# Altium integrated library Linear Technology Charge_Pump.IntLib: 599 symbols (part 21 of 29)
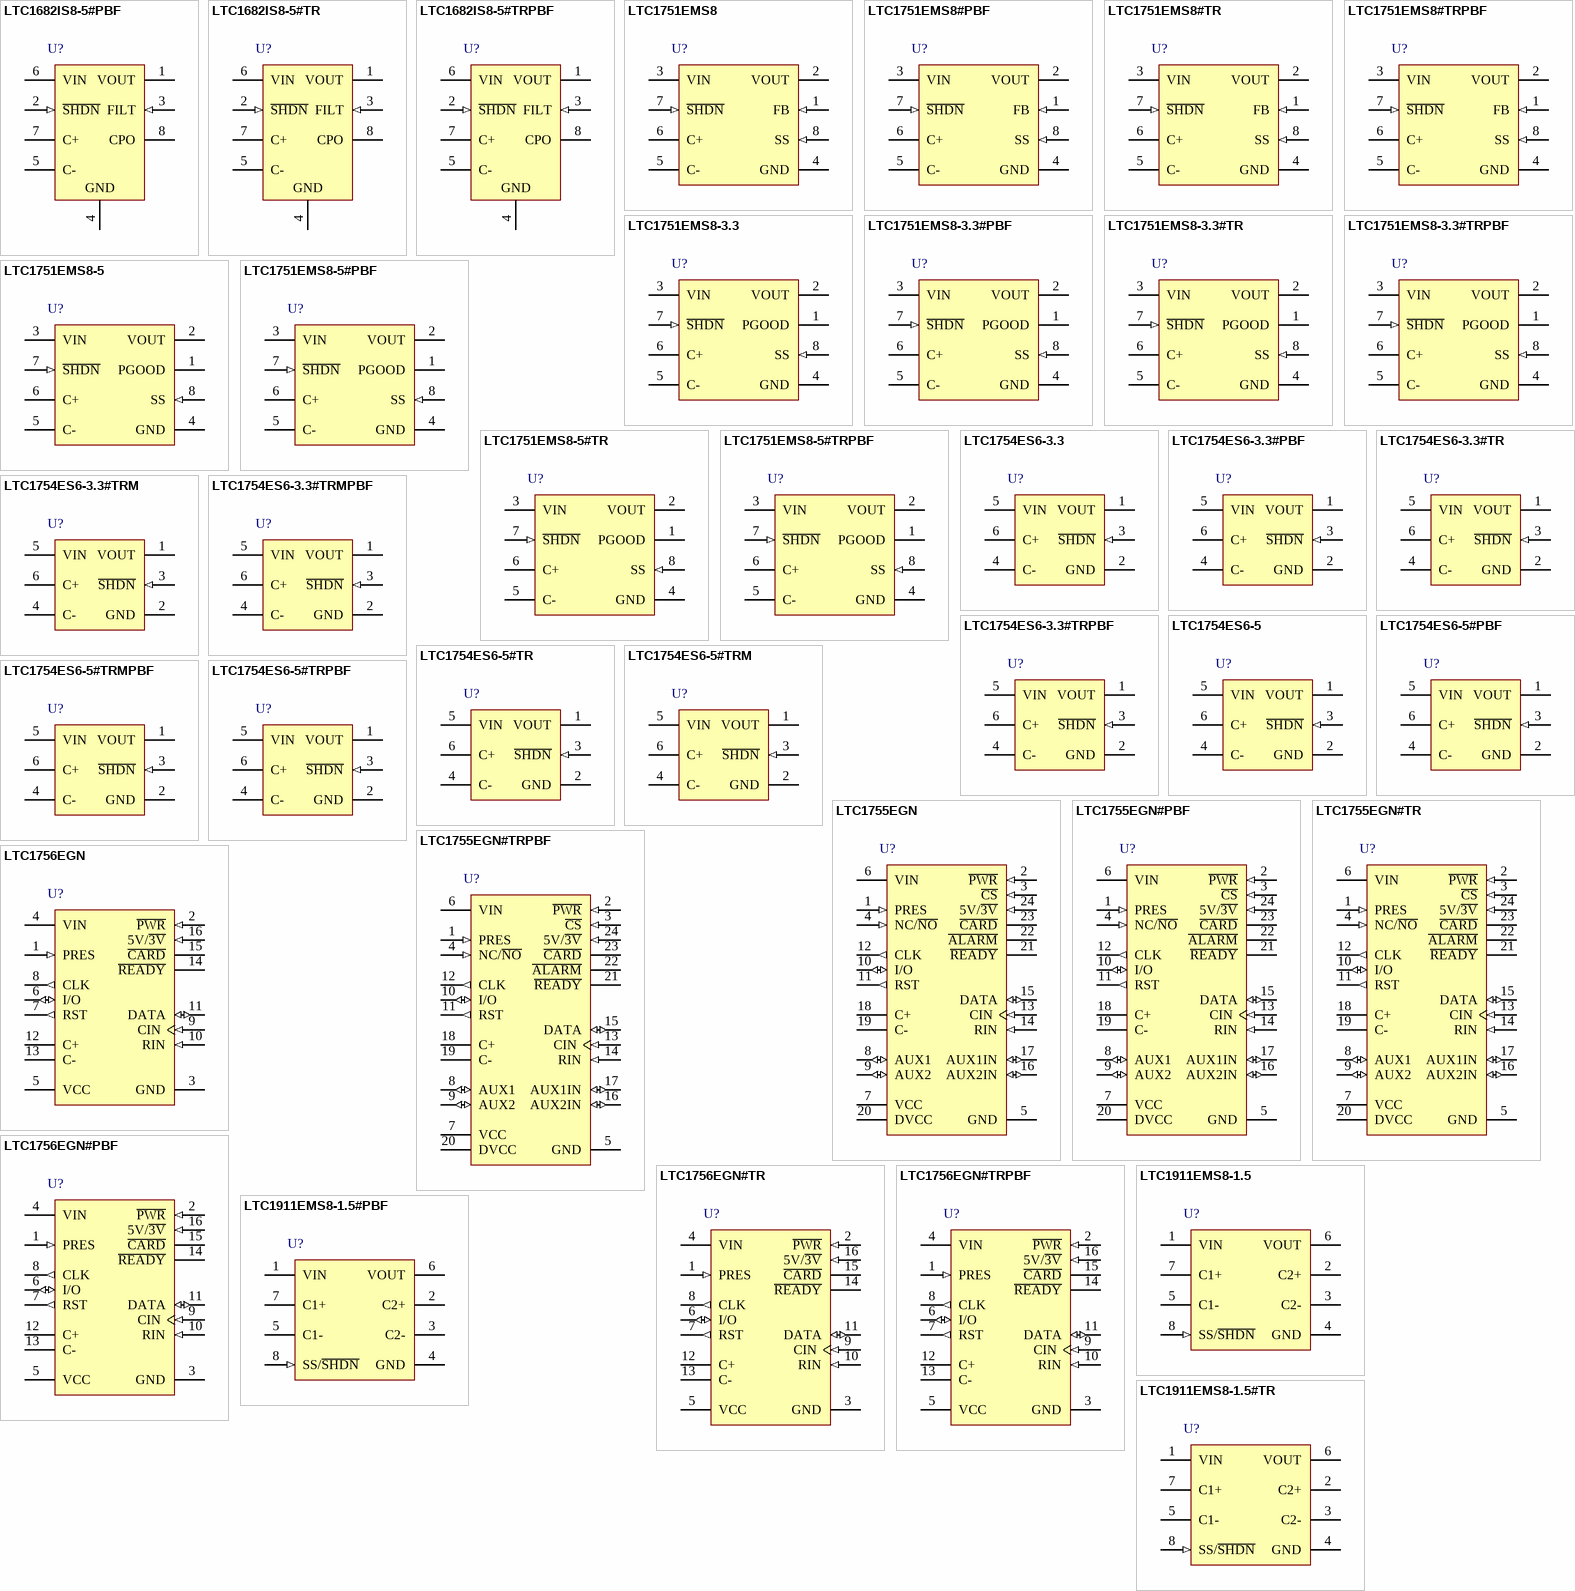
[diagram p36: symbols LTC1682IS8-5#PBF to LTC1911EMS8-1.5#TR]

## LTC1755EGN#TRPBF
designator U?
Smart Card Interface, 2.7 to 6 V Vin, 3 / 5 V Vout, 24-pin SOP (GN-24), -40 to 85 degC, Pb-Free, Tape and Reel; Manufacturer: Linear Technology; PartNumber: LTC1755EGN#TRPBF; Ishutdown(uA): 1; Isupply(mA): 0.06; Max Iout(mA): 60; Vin Max(V): 6; Vin Min(V): 2.7; Voutput: 3V, 5V; PackageVersion: Rev. B, 03/2012; PackageReference: GN24; PackageDescription: 24-Pin Plastic SSOP , Body 8.5 x 3.9 mm, Pitch 0.635 mm; Supplier 1: Digi-Key; Supplier Part Number 1: LTC1755EGN#TRPBF-ND; Packing: Tape and Reel; RoHS: TRUE; Mounting Technology: Surface Mount; ComponentLink1Description: Manufacturer URL; ComponentLink1URL: http://www.linear.com/; ComponentLink2Description: Datasheet; ComponentLink2URL: http://cds.linear.com/docs/en/datasheet/17556s.pdf; ComponentLink3Description: Package Specification; ComponentLink3URL: http://cds.linear.com/docs/en/packaging/05081641_B_GN24.pdf
footprint LT-GN-24_N (SOP, 24-Leads, Body 8.7x4mm, Pitch 0.635mm, IPC Medium Density)
footprint LT-GN-24_L (SOP, 24-Leads, Body 8.7x4mm, Pitch 0.635mm, IPC High Density)
footprint LT-GN-24_M (SOP, 24-Leads, Body 8.7x4mm, Pitch 0.635mm, IPC Low Density)
pins: 1 PRES (in) "(Input) Connects to the Smart Card acceptor¡¯s PRESENT indicator switch to detect if a card is inserted. This pin has a pull-up current source so that a grounded switch can be detected with no external components. Th(See Datasheet)", 2 ~{PWR} (in) "(Input) A low on the P\W\R\ pin places the LTC1755 in the ACTIVE state enabling the charge pump. The R\E\A\D\Y\ pin indicates when the card supply voltage (VCC) has reached its final value and communication with the Smart (See Datasheet)", 3 ~{CS} (in) "(Input) The C\S\ pin enables the three bidirectional I/O channels of the LTC1755. When the I/O channels are disabled the Smart Card pins (I/O, AUX1, AUX2) are forced to logic one and the controller pins (DATA, AUX2IN, (See Datasheet)", 4 NC/~{NO} (in) "(Input) This pin controls the activation level of the PRES pin. When it is high (DVCC) the PRES pin is active high. When it is low (GND) the PRES pin is active low. In either case the presence of a Smart Card is indicated by (See Datasheet)", 5 GND (power) "Ground Reference for the IC. This pin should be connected to a low impedance ground plane. Bypass capacitors for VIN and VCC should be in close proximity to the GND pin.", 6 VIN (power) "Supply Voltage for the Charge Pump. May be between 2.7V and 6V. A 10uF low ESR ceramic bypass capacitor is required on this pin for optimum performance.", 7 VCC (power) "Regulated Smart Card Supply Voltage. This pin should be connected to the Smart Card VCC contact. The 5V/3\V\ pin determines the VCC output voltage. The VCC pin is protected against short circuits by comparing the actual (See Datasheet)", 8 AUX1 (io) "(Input/Output) Smart Card Side Auxiliary I/O Pin. This pin is used for auxiliary bidirectional data transfer between the microcontroller and the Smart Card. It has the same characteristics as the I/O pin.", 9 AUX2 (io) "(Input/Output) Smart Card Side Auxiliary I/O Pin. This pin is used for auxiliary bidirectional data transfer between the microcontroller and the Smart Card. It has the same characteristics as the I/O pin.", 10 I/O (io) "(Input/Output) Smart Card Side Data I/O Pin. This pin is used for bidirectional data transfer between the microcontroller and the Smart Card. It should be connected to the Smart Card I/O contact. The Smart Card I/O pin must (See Datasheet)", 11 RST (out) "(Output) Level-Shifted Reset Output Pin. This pin should be connected to the Smart Card RST contact. The RST pin becomes a low impedance to ground during the Idle state (see the State Diagram). The reset channel does not (See Datasheet)", 12 CLK (out) "(Output) Level-Shifted Clock Output Pin. This pin should be connected to the Smart Card CLK contact. The CLK pin becomes a low impedance to ground during the Idle state (see the State Diagram). The clock channel does not (See Datasheet)", 13 CIN (in) "(Input) Clock Input Pin from the Microcontroller. During the Active state this signal appears on the CLK pin after being level-shifted and buffered. DVCC sets the logic reference level for the CIN pin.", 14 RIN (in) "(Input) Reset Input Pin from the Microcontroller. During the Active state this signal appears on the RST pin after being level-shifted and buffered. DVCC sets the logic reference level for the RIN pin.", 15 DATA (io) "(Input/Output) Microcontroller Side Data I/O Pin. This pin is used for bidirectional data transfer between the microcontroller and the Smart Card. The microcontroller data pin must be open drain and must be able to sink up (See Datasheet)", 16 AUX2IN (io) "(Input/Output) Microcontroller Side Auxiliary I/O pin. This pin is used for bidirectional auxiliary data transfer between the microcontroller and the Smart Card. It has the same characteristics as the DATA pin.", 17 AUX1IN (io) "(Input/Output) Microcontroller Side Auxiliary I/O Pin. This pin is used for bidirectional auxiliary data transfer between the microcontroller and the Smart Card. It has the same characteristics as the DATA pin.", 18 C+ "Charge Pump Flying Capacitor Terminals. Optimum values for the flying capacitor range from 0.68uF to 1uF. Best performance is achieved with a low ESR X7R ceramic capacitor.", 19 C- "Charge Pump Flying Capacitor Terminals. Optimum values for the flying capacitor range from 0.68uF to 1uF. Best performance is achieved with a low ESR X7R ceramic capacitor.", 20 DVCC (power) "Supply Voltage for the Microcontroller Side Digital Input and Input/Output Pins (Typically 3V). If the charge pump input pin (VIN) is powered from the same source as the microcontroller, then DVCC should be connected (See Datasheet)", 21 ~{READY} (oc) "(Output) Readiness Indicator of the Smart Card Supply Voltage (VCC). When the LTC1755/ LTC1756 are placed in the Active state the soft-start feature slowly ramps the VCC voltage. A low on the R\E\A\D\Y\ pin indicates that (See Datasheet)", 22 ~{ALARM} (oc) "(Output) A low on this pin indicates that a fault has occurred and that the LTC1755 is in the Alarm state (see the State Diagram). Possible faults include VCC underrange for at least 5ms, overtemperature shutdown, CLK or RST (See Datasheet)", 23 ~{CARD} (oc) "(Output) Level-Shifted and Debounced PRES Signal from the Smart Card Acceptor Switch. When a valid card indication appears, this pin communicates the presence of the Smart Card to the microcontroller. The C\A\R\D\ pin has an (See Datasheet)", 24 5V/~{3V} (in) "(Input) Controls the output voltage (VCC) of the DC/DC converter during the Active state. A valid high sets VCC to 5V. A valid low sets VCC to 3V. The 5V/3\V\ pin is latched on the falling edge of the P\W\R\ pin. When P\W\R\ (See Datasheet)"

## LTC1756EGN
designator U?
Smart Card Interface, 2.7 to 5.5 V Vin, 3 / 5 V Vout, 16-pin SOP (GN-16), -40 to 85 degC; Manufacturer: Linear Technology; PartNumber: LTC1756EGN; Ishutdown(uA): 1; Isupply(mA): 0.06; Max Iout(mA): 60; Vin Max(V): 5.5; Vin Min(V): 2.7; Voutput: 3V, 5V; PackageVersion: Rev. B, 03/2012; PackageReference: GN-16; PackageDescription: 16-Pin Plastic SSOP, Body 4.9 x 3.9 mm, Pitch 0.635 mm; Supplier 1: Digi-Key; Supplier Part Number 1: LTC1756EGN-ND; RoHS: FALSE; Mounting Technology: Surface Mount; ComponentLink1Description: Manufacturer URL; ComponentLink1URL: http://www.linear.com/; ComponentLink2Description: Datasheet; ComponentLink2URL: http://cds.linear.com/docs/en/datasheet/17556s.pdf; ComponentLink3Description: Package Specification; ComponentLink3URL: http://cds.linear.com/docs/en/packaging/05081641_B_GN16.pdf
footprint LT-GN-16_N (SOP, 16-Leads, Body 5x4mm, Pitch 0.635mm, IPC Medium Density)
footprint LT-GN-16_L (SOP, 16-Leads, Body 5x4mm, Pitch 0.635mm, IPC High Density)
footprint LT-GN-16_M (SOP, 16-Leads, Body 5x4mm, Pitch 0.635mm, IPC Low Density)
pins: 1 PRES (in) "(Input) Connects to the Smart Card acceptor’s PRESENT indicator switch to detect if a card is inserted. This pin has a pull-up current source so that a grounded switch can be detected with no external components. Th(See Datasheet)", 2 ~{PWR} (in) "(Input) A low on the P\W\R\ pin places the LTC1755/LTC1756 in the ACTIVE state enabling the charge pump. The R\E\A\D\Y\ pin indicates when the card supply voltage (VCC) has reached its final value and communication with the (See Datasheet)", 3 GND (power) "Ground Reference for the IC. This pin should be connected to a low impedance ground plane. Bypass capacitors for VIN and VCC should be in close proximity to the GND pin.", 4 VIN (power) "Supply Voltage for the Charge Pump. May be between 2.7V and 6V. A 10uF low ESR ceramic bypass capacitor is required on this pin for optimum performance.", 5 VCC (power) "Regulated Smart Card Supply Voltage. This pin should be connected to the Smart Card VCC contact. The 5V/3\V\ pin determines the VCC output voltage. The VCC pin is protected against short circuits by comparing the actual (See Datasheet)", 6 I/O (io) "(Input/Output) Smart Card Side Data I/O Pin. This pin is used for bidirectional data transfer between the microcontroller and the Smart Card. It should be connected to the Smart Card I/O contact. The Smart Card I/O pin must (See Datasheet)", 7 RST (out) "(Output) Level-Shifted Reset Output Pin. This pin should be connected to the Smart Card RST contact. The RST pin becomes a low impedance to ground during the Idle state (see the State Diagram). The reset channel does not (See Datasheet)", 8 CLK (out) "(Output) Level-Shifted Clock Output Pin. This pin should be connected to the Smart Card CLK contact. The CLK pin becomes a low impedance to ground during the Idle state (see the State Diagram). The clock channel does not (See Datasheet)", 9 CIN (in) "(Input) Clock Input Pin from the Microcontroller. During the Active state this signal appears on the CLK pin after being level-shifted and buffered.", 10 RIN (in) "(Input) Reset Input Pin from the Microcontroller. During the Active state this signal appears on the RST pin after being level-shifted and buffered.", 11 DATA (io) "(Input/Output) Microcontroller Side Data I/O Pin. This pin is used for bidirectional data transfer between the microcontroller and the Smart Card. The microcontroller data pin must be open drain and must be able to sink up (See Datasheet)", 12 C+ "Charge Pump Flying Capacitor Terminals. Optimum values for the flying capacitor range from 0.68uF to 1uF. Best performance is achieved with a low ESR X7R ceramic capacitor.", 13 C- "Charge Pump Flying Capacitor Terminals. Optimum values for the flying capacitor range from 0.68uF to 1uF. Best performance is achieved with a low ESR X7R ceramic capacitor.", 14 ~{READY} (oc) "(Output) Readiness Indicator of the Smart Card Supply Voltage (VCC). When the LTC1755/ LTC1756 are placed in the Active state the soft-start feature slowly ramps the VCC voltage. A low on the R\E\A\D\Y\ pin indicates that (See Datasheet)", 15 ~{CARD} (oc) "(Output) Level-Shifted and Debounced PRES Signal from the Smart Card Acceptor Switch. When a valid card indication appears, this pin communicates the presence of the Smart Card to the microcontroller. The C\A\R\D\ pin has an (See Datasheet)", 16 5V/~{3V} (in) "(Input) Controls the output voltage (VCC) of the DC/DC converter during the Active state. A valid high sets VCC to 5V. A valid low sets VCC to 3V. The 5V/3\V\ pin is latched on the falling edge of the P\W\R\ pin. When P\W\R\ (See Datasheet)"

## LTC1756EGN#PBF
designator U?
Smart Card Interface, 2.7 to 5.5 V Vin, 3 / 5 V Vout, 16-pin SOP (GN-16), -40 to 85 degC, Pb-Free; Manufacturer: Linear Technology; PartNumber: LTC1756EGN#PBF; Ishutdown(uA): 1; Isupply(mA): 0.06; Max Iout(mA): 60; Vin Max(V): 5.5; Vin Min(V): 2.7; Voutput: 3V, 5V; PackageVersion: Rev. B, 03/2012; PackageReference: GN-16; PackageDescription: 16-Pin Plastic SSOP, Body 4.9 x 3.9 mm, Pitch 0.635 mm; Supplier 1: Digi-Key; Supplier Part Number 1: LTC1756EGN#PBF-ND; Supplier 2: Farnell; Supplier Part Number 2: 2295511; RoHS: TRUE; Mounting Technology: Surface Mount; ComponentLink1Description: Manufacturer URL; ComponentLink1URL: http://www.linear.com/; ComponentLink2Description: Datasheet; ComponentLink2URL: http://cds.linear.com/docs/en/datasheet/17556s.pdf; ComponentLink3Description: Package Specification; ComponentLink3URL: http://cds.linear.com/docs/en/packaging/05081641_B_GN16.pdf
footprint LT-GN-16_N (SOP, 16-Leads, Body 5x4mm, Pitch 0.635mm, IPC Medium Density)
footprint LT-GN-16_L (SOP, 16-Leads, Body 5x4mm, Pitch 0.635mm, IPC High Density)
footprint LT-GN-16_M (SOP, 16-Leads, Body 5x4mm, Pitch 0.635mm, IPC Low Density)
pins: 1 PRES (in) "(Input) Connects to the Smart Card acceptor’s PRESENT indicator switch to detect if a card is inserted. This pin has a pull-up current source so that a grounded switch can be detected with no external components. Th(See Datasheet)", 2 ~{PWR} (in) "(Input) A low on the P\W\R\ pin places the LTC1755/LTC1756 in the ACTIVE state enabling the charge pump. The R\E\A\D\Y\ pin indicates when the card supply voltage (VCC) has reached its final value and communication with the (See Datasheet)", 3 GND (power) "Ground Reference for the IC. This pin should be connected to a low impedance ground plane. Bypass capacitors for VIN and VCC should be in close proximity to the GND pin.", 4 VIN (power) "Supply Voltage for the Charge Pump. May be between 2.7V and 6V. A 10uF low ESR ceramic bypass capacitor is required on this pin for optimum performance.", 5 VCC (power) "Regulated Smart Card Supply Voltage. This pin should be connected to the Smart Card VCC contact. The 5V/3\V\ pin determines the VCC output voltage. The VCC pin is protected against short circuits by comparing the actual (See Datasheet)", 6 I/O (io) "(Input/Output) Smart Card Side Data I/O Pin. This pin is used for bidirectional data transfer between the microcontroller and the Smart Card. It should be connected to the Smart Card I/O contact. The Smart Card I/O pin must (See Datasheet)", 7 RST (out) "(Output) Level-Shifted Reset Output Pin. This pin should be connected to the Smart Card RST contact. The RST pin becomes a low impedance to ground during the Idle state (see the State Diagram). The reset channel does not (See Datasheet)", 8 CLK (out) "(Output) Level-Shifted Clock Output Pin. This pin should be connected to the Smart Card CLK contact. The CLK pin becomes a low impedance to ground during the Idle state (see the State Diagram). The clock channel does not (See Datasheet)", 9 CIN (in) "(Input) Clock Input Pin from the Microcontroller. During the Active state this signal appears on the CLK pin after being level-shifted and buffered.", 10 RIN (in) "(Input) Reset Input Pin from the Microcontroller. During the Active state this signal appears on the RST pin after being level-shifted and buffered.", 11 DATA (io) "(Input/Output) Microcontroller Side Data I/O Pin. This pin is used for bidirectional data transfer between the microcontroller and the Smart Card. The microcontroller data pin must be open drain and must be able to sink up (See Datasheet)", 12 C+ "Charge Pump Flying Capacitor Terminals. Optimum values for the flying capacitor range from 0.68uF to 1uF. Best performance is achieved with a low ESR X7R ceramic capacitor.", 13 C- "Charge Pump Flying Capacitor Terminals. Optimum values for the flying capacitor range from 0.68uF to 1uF. Best performance is achieved with a low ESR X7R ceramic capacitor.", 14 ~{READY} (oc) "(Output) Readiness Indicator of the Smart Card Supply Voltage (VCC). When the LTC1755/ LTC1756 are placed in the Active state the soft-start feature slowly ramps the VCC voltage. A low on the R\E\A\D\Y\ pin indicates that (See Datasheet)", 15 ~{CARD} (oc) "(Output) Level-Shifted and Debounced PRES Signal from the Smart Card Acceptor Switch. When a valid card indication appears, this pin communicates the presence of the Smart Card to the microcontroller. The C\A\R\D\ pin has an (See Datasheet)", 16 5V/~{3V} (in) "(Input) Controls the output voltage (VCC) of the DC/DC converter during the Active state. A valid high sets VCC to 5V. A valid low sets VCC to 3V. The 5V/3\V\ pin is latched on the falling edge of the P\W\R\ pin. When P\W\R\ (See Datasheet)"

## LTC1756EGN#TR
designator U?
Smart Card Interface, 2.7 to 5.5 V Vin, 3 / 5 V Vout, 16-pin SOP (GN-16), -40 to 85 degC, Tape and Reel; Manufacturer: Linear Technology; PartNumber: LTC1756EGN#TR; Ishutdown(uA): 1; Isupply(mA): 0.06; Max Iout(mA): 60; Vin Max(V): 5.5; Vin Min(V): 2.7; Voutput: 3V, 5V; PackageVersion: Rev. B, 03/2012; PackageReference: GN-16; PackageDescription: 16-Pin Plastic SSOP, Body 4.9 x 3.9 mm, Pitch 0.635 mm; Supplier 1: Digi-Key; Supplier Part Number 1: LTC1756EGN#TR-ND; Packing: Tape and Reel; RoHS: FALSE; Mounting Technology: Surface Mount; ComponentLink1Description: Manufacturer URL; ComponentLink1URL: http://www.linear.com/; ComponentLink2Description: Datasheet; ComponentLink2URL: http://cds.linear.com/docs/en/datasheet/17556s.pdf; ComponentLink3Description: Package Specification; ComponentLink3URL: http://cds.linear.com/docs/en/packaging/05081641_B_GN16.pdf
footprint LT-GN-16_N (SOP, 16-Leads, Body 5x4mm, Pitch 0.635mm, IPC Medium Density)
footprint LT-GN-16_L (SOP, 16-Leads, Body 5x4mm, Pitch 0.635mm, IPC High Density)
footprint LT-GN-16_M (SOP, 16-Leads, Body 5x4mm, Pitch 0.635mm, IPC Low Density)
pins: 1 PRES (in) "(Input) Connects to the Smart Card acceptor’s PRESENT indicator switch to detect if a card is inserted. This pin has a pull-up current source so that a grounded switch can be detected with no external components. Th(See Datasheet)", 2 ~{PWR} (in) "(Input) A low on the P\W\R\ pin places the LTC1755/LTC1756 in the ACTIVE state enabling the charge pump. The R\E\A\D\Y\ pin indicates when the card supply voltage (VCC) has reached its final value and communication with the (See Datasheet)", 3 GND (power) "Ground Reference for the IC. This pin should be connected to a low impedance ground plane. Bypass capacitors for VIN and VCC should be in close proximity to the GND pin.", 4 VIN (power) "Supply Voltage for the Charge Pump. May be between 2.7V and 6V. A 10uF low ESR ceramic bypass capacitor is required on this pin for optimum performance.", 5 VCC (power) "Regulated Smart Card Supply Voltage. This pin should be connected to the Smart Card VCC contact. The 5V/3\V\ pin determines the VCC output voltage. The VCC pin is protected against short circuits by comparing the actual (See Datasheet)", 6 I/O (io) "(Input/Output) Smart Card Side Data I/O Pin. This pin is used for bidirectional data transfer between the microcontroller and the Smart Card. It should be connected to the Smart Card I/O contact. The Smart Card I/O pin must (See Datasheet)", 7 RST (out) "(Output) Level-Shifted Reset Output Pin. This pin should be connected to the Smart Card RST contact. The RST pin becomes a low impedance to ground during the Idle state (see the State Diagram). The reset channel does not (See Datasheet)", 8 CLK (out) "(Output) Level-Shifted Clock Output Pin. This pin should be connected to the Smart Card CLK contact. The CLK pin becomes a low impedance to ground during the Idle state (see the State Diagram). The clock channel does not (See Datasheet)", 9 CIN (in) "(Input) Clock Input Pin from the Microcontroller. During the Active state this signal appears on the CLK pin after being level-shifted and buffered.", 10 RIN (in) "(Input) Reset Input Pin from the Microcontroller. During the Active state this signal appears on the RST pin after being level-shifted and buffered.", 11 DATA (io) "(Input/Output) Microcontroller Side Data I/O Pin. This pin is used for bidirectional data transfer between the microcontroller and the Smart Card. The microcontroller data pin must be open drain and must be able to sink up (See Datasheet)", 12 C+ "Charge Pump Flying Capacitor Terminals. Optimum values for the flying capacitor range from 0.68uF to 1uF. Best performance is achieved with a low ESR X7R ceramic capacitor.", 13 C- "Charge Pump Flying Capacitor Terminals. Optimum values for the flying capacitor range from 0.68uF to 1uF. Best performance is achieved with a low ESR X7R ceramic capacitor.", 14 ~{READY} (oc) "(Output) Readiness Indicator of the Smart Card Supply Voltage (VCC). When the LTC1755/ LTC1756 are placed in the Active state the soft-start feature slowly ramps the VCC voltage. A low on the R\E\A\D\Y\ pin indicates that (See Datasheet)", 15 ~{CARD} (oc) "(Output) Level-Shifted and Debounced PRES Signal from the Smart Card Acceptor Switch. When a valid card indication appears, this pin communicates the presence of the Smart Card to the microcontroller. The C\A\R\D\ pin has an (See Datasheet)", 16 5V/~{3V} (in) "(Input) Controls the output voltage (VCC) of the DC/DC converter during the Active state. A valid high sets VCC to 5V. A valid low sets VCC to 3V. The 5V/3\V\ pin is latched on the falling edge of the P\W\R\ pin. When P\W\R\ (See Datasheet)"

## LTC1756EGN#TRPBF
designator U?
Smart Card Interface, 2.7 to 5.5 V Vin, 3 / 5 V Vout, 16-pin SOP (GN-16), -40 to 85 degC, Pb-Free, Tape and Reel; Manufacturer: Linear Technology; PartNumber: LTC1756EGN#TRPBF; Ishutdown(uA): 1; Isupply(mA): 0.06; Max Iout(mA): 60; Vin Max(V): 5.5; Vin Min(V): 2.7; Voutput: 3V, 5V; PackageVersion: Rev. B, 03/2012; PackageReference: GN-16; PackageDescription: 16-Pin Plastic SSOP, Body 4.9 x 3.9 mm, Pitch 0.635 mm; Supplier 1: Digi-Key; Supplier Part Number 1: LTC1756EGN#TRPBF-ND; Packing: Tape and Reel; RoHS: TRUE; Mounting Technology: Surface Mount; ComponentLink1Description: Manufacturer URL; ComponentLink1URL: http://www.linear.com/; ComponentLink2Description: Datasheet; ComponentLink2URL: http://cds.linear.com/docs/en/datasheet/17556s.pdf; ComponentLink3Description: Package Specification; ComponentLink3URL: http://cds.linear.com/docs/en/packaging/05081641_B_GN16.pdf
footprint LT-GN-16_N (SOP, 16-Leads, Body 5x4mm, Pitch 0.635mm, IPC Medium Density)
footprint LT-GN-16_L (SOP, 16-Leads, Body 5x4mm, Pitch 0.635mm, IPC High Density)
footprint LT-GN-16_M (SOP, 16-Leads, Body 5x4mm, Pitch 0.635mm, IPC Low Density)
pins: 1 PRES (in) "(Input) Connects to the Smart Card acceptor’s PRESENT indicator switch to detect if a card is inserted. This pin has a pull-up current source so that a grounded switch can be detected with no external components. Th(See Datasheet)", 2 ~{PWR} (in) "(Input) A low on the P\W\R\ pin places the LTC1755/LTC1756 in the ACTIVE state enabling the charge pump. The R\E\A\D\Y\ pin indicates when the card supply voltage (VCC) has reached its final value and communication with the (See Datasheet)", 3 GND (power) "Ground Reference for the IC. This pin should be connected to a low impedance ground plane. Bypass capacitors for VIN and VCC should be in close proximity to the GND pin.", 4 VIN (power) "Supply Voltage for the Charge Pump. May be between 2.7V and 6V. A 10uF low ESR ceramic bypass capacitor is required on this pin for optimum performance.", 5 VCC (power) "Regulated Smart Card Supply Voltage. This pin should be connected to the Smart Card VCC contact. The 5V/3\V\ pin determines the VCC output voltage. The VCC pin is protected against short circuits by comparing the actual (See Datasheet)", 6 I/O (io) "(Input/Output) Smart Card Side Data I/O Pin. This pin is used for bidirectional data transfer between the microcontroller and the Smart Card. It should be connected to the Smart Card I/O contact. The Smart Card I/O pin must (See Datasheet)", 7 RST (out) "(Output) Level-Shifted Reset Output Pin. This pin should be connected to the Smart Card RST contact. The RST pin becomes a low impedance to ground during the Idle state (see the State Diagram). The reset channel does not (See Datasheet)", 8 CLK (out) "(Output) Level-Shifted Clock Output Pin. This pin should be connected to the Smart Card CLK contact. The CLK pin becomes a low impedance to ground during the Idle state (see the State Diagram). The clock channel does not (See Datasheet)", 9 CIN (in) "(Input) Clock Input Pin from the Microcontroller. During the Active state this signal appears on the CLK pin after being level-shifted and buffered.", 10 RIN (in) "(Input) Reset Input Pin from the Microcontroller. During the Active state this signal appears on the RST pin after being level-shifted and buffered.", 11 DATA (io) "(Input/Output) Microcontroller Side Data I/O Pin. This pin is used for bidirectional data transfer between the microcontroller and the Smart Card. The microcontroller data pin must be open drain and must be able to sink up (See Datasheet)", 12 C+ "Charge Pump Flying Capacitor Terminals. Optimum values for the flying capacitor range from 0.68uF to 1uF. Best performance is achieved with a low ESR X7R ceramic capacitor.", 13 C- "Charge Pump Flying Capacitor Terminals. Optimum values for the flying capacitor range from 0.68uF to 1uF. Best performance is achieved with a low ESR X7R ceramic capacitor.", 14 ~{READY} (oc) "(Output) Readiness Indicator of the Smart Card Supply Voltage (VCC). When the LTC1755/ LTC1756 are placed in the Active state the soft-start feature slowly ramps the VCC voltage. A low on the R\E\A\D\Y\ pin indicates that (See Datasheet)", 15 ~{CARD} (oc) "(Output) Level-Shifted and Debounced PRES Signal from the Smart Card Acceptor Switch. When a valid card indication appears, this pin communicates the presence of the Smart Card to the microcontroller. The C\A\R\D\ pin has an (See Datasheet)", 16 5V/~{3V} (in) "(Input) Controls the output voltage (VCC) of the DC/DC converter during the Active state. A valid high sets VCC to 5V. A valid low sets VCC to 3V. The 5V/3\V\ pin is latched on the falling edge of the P\W\R\ pin. When P\W\R\ (See Datasheet)"

## LTC1911EMS8-1.5
designator U?
Low Noise, High Efficiency, Inductorless Step-Down DC/DC Converter, 2.7 to 5.5 V Vin, 1.5 V Vout, 8-pin SOP (MS8-8), -40 to 85 degC; Manufacturer: Linear Technology; PartNumber: LTC1911EMS8-1.5; Frequency(kHz): 1500; Ishutdown(uA): 10; Isupply(mA): 0.18; Max Iout(mA): 250; Vin Max(V): 5.5; Vin Min(V): 2.7; Voutput: 1.5V; PackageVersion: Rev. G, 03/2012; PackageReference: MS8-8; PackageDescription: 8-Pin Plastic MSOP, Body 3 x 3 mm, Pitch 0.65 mm; RoHS: FALSE; Mounting Technology: Surface Mount; ComponentLink1Description: Manufacturer URL; ComponentLink1URL: http://www.linear.com/; ComponentLink2Description: Datasheet; ComponentLink2URL: http://cds.linear.com/docs/en/datasheet/1911f.pdf; ComponentLink3Description: Package Specification; ComponentLink3URL: http://cds.linear.com/docs/en/packaging/05081660_G_MS8.pdf
footprint LT-MS8-8_N (SOP, 8-Leads, Body 3.1x3.1mm, Pitch 0.65mm, IPC Medium Density)
footprint LT-MS8-8_L (SOP, 8-Leads, Body 3.1x3.1mm, Pitch 0.65mm, IPC High Density)
footprint LT-MS8-8_M (SOP, 8-Leads, Body 3.1x3.1mm, Pitch 0.65mm, IPC Low Density)
pins: 1 VIN (power) "Input Supply Voltage. VIN may be between 2.7V and 5.5V. Suggested bypass for VIN is a 10uF (1uF min) ceramic low ESR capacitor.", 2 C2+ "Flying Capacitor Two Positive Terminal.", 3 C2- "Flying Capacitor Two Negative Terminal.", 4 GND (power) "Ground. Connect to a ground plane for best performance.", 5 C1- "Flying Capacitor One Negative Terminal.", 6 VOUT (power) "Regulated Output Voltage. VOUT is disconnected from VIN during shutdown. Bypass VOUT with a >=10uF ceramic low ESR capacitor (4uF min, ESR < 0.1ohm max).", 7 C1+ "Flying Capacitor One Positive Terminal.", 8 SS/~{SHDN} (in) "Soft-Start/Shutdown Control Pin. This pin is designed to be driven with an external open-drain output. Holding the SS/S\H\D\N\ pin below 0.3V will force the LTC1911-X into shutdown mode. An internal pull-up current of 2uA (See Datasheet)"

## LTC1911EMS8-1.5#PBF
designator U?
Low Noise, High Efficiency, Inductorless Step-Down DC/DC Converter, 2.7 to 5.5 V Vin, 1.5 V Vout, 8-pin SOP (MS8-8), -40 to 85 degC, Pb-Free; Manufacturer: Linear Technology; PartNumber: LTC1911EMS8-1.5#PBF; Frequency(kHz): 1500; Ishutdown(uA): 10; Isupply(mA): 0.18; Max Iout(mA): 250; Vin Max(V): 5.5; Vin Min(V): 2.7; Voutput: 1.5V; PackageVersion: Rev. G, 03/2012; PackageReference: MS8-8; PackageDescription: 8-Pin Plastic MSOP, Body 3 x 3 mm, Pitch 0.65 mm; Supplier 1: Digi-Key; Supplier Part Number 1: LTC1911EMS8-1.5#PBF-ND; RoHS: TRUE; Mounting Technology: Surface Mount; ComponentLink1Description: Manufacturer URL; ComponentLink1URL: http://www.linear.com/; ComponentLink2Description: Datasheet; ComponentLink2URL: http://cds.linear.com/docs/en/datasheet/1911f.pdf; ComponentLink3Description: Package Specification; ComponentLink3URL: http://cds.linear.com/docs/en/packaging/05081660_G_MS8.pdf
footprint LT-MS8-8_N (SOP, 8-Leads, Body 3.1x3.1mm, Pitch 0.65mm, IPC Medium Density)
footprint LT-MS8-8_L (SOP, 8-Leads, Body 3.1x3.1mm, Pitch 0.65mm, IPC High Density)
footprint LT-MS8-8_M (SOP, 8-Leads, Body 3.1x3.1mm, Pitch 0.65mm, IPC Low Density)
pins: 1 VIN (power) "Input Supply Voltage. VIN may be between 2.7V and 5.5V. Suggested bypass for VIN is a 10uF (1uF min) ceramic low ESR capacitor.", 2 C2+ "Flying Capacitor Two Positive Terminal.", 3 C2- "Flying Capacitor Two Negative Terminal.", 4 GND (power) "Ground. Connect to a ground plane for best performance.", 5 C1- "Flying Capacitor One Negative Terminal.", 6 VOUT (power) "Regulated Output Voltage. VOUT is disconnected from VIN during shutdown. Bypass VOUT with a >=10uF ceramic low ESR capacitor (4uF min, ESR < 0.1ohm max).", 7 C1+ "Flying Capacitor One Positive Terminal.", 8 SS/~{SHDN} (in) "Soft-Start/Shutdown Control Pin. This pin is designed to be driven with an external open-drain output. Holding the SS/S\H\D\N\ pin below 0.3V will force the LTC1911-X into shutdown mode. An internal pull-up current of 2uA (See Datasheet)"

## LTC1911EMS8-1.5#TR
designator U?
Low Noise, High Efficiency, Inductorless Step-Down DC/DC Converter, 2.7 to 5.5 V Vin, 1.5 V Vout, 8-pin SOP (MS8-8), -40 to 85 degC, Tape and Reel; Manufacturer: Linear Technology; PartNumber: LTC1911EMS8-1.5#TR; Frequency(kHz): 1500; Ishutdown(uA): 10; Isupply(mA): 0.18; Max Iout(mA): 250; Vin Max(V): 5.5; Vin Min(V): 2.7; Voutput: 1.5V; PackageVersion: Rev. G, 03/2012; PackageReference: MS8-8; PackageDescription: 8-Pin Plastic MSOP, Body 3 x 3 mm, Pitch 0.65 mm; Supplier 1: Digi-Key; Supplier Part Number 1: LTC1911EMS8-1.5TR-ND; Packing: Tape and Reel; RoHS: FALSE; Mounting Technology: Surface Mount; ComponentLink1Description: Manufacturer URL; ComponentLink1URL: http://www.linear.com/; ComponentLink2Description: Datasheet; ComponentLink2URL: http://cds.linear.com/docs/en/datasheet/1911f.pdf; ComponentLink3Description: Package Specification; ComponentLink3URL: http://cds.linear.com/docs/en/packaging/05081660_G_MS8.pdf
footprint LT-MS8-8_N (SOP, 8-Leads, Body 3.1x3.1mm, Pitch 0.65mm, IPC Medium Density)
footprint LT-MS8-8_L (SOP, 8-Leads, Body 3.1x3.1mm, Pitch 0.65mm, IPC High Density)
footprint LT-MS8-8_M (SOP, 8-Leads, Body 3.1x3.1mm, Pitch 0.65mm, IPC Low Density)
pins: 1 VIN (power) "Input Supply Voltage. VIN may be between 2.7V and 5.5V. Suggested bypass for VIN is a 10uF (1uF min) ceramic low ESR capacitor.", 2 C2+ "Flying Capacitor Two Positive Terminal.", 3 C2- "Flying Capacitor Two Negative Terminal.", 4 GND (power) "Ground. Connect to a ground plane for best performance.", 5 C1- "Flying Capacitor One Negative Terminal.", 6 VOUT (power) "Regulated Output Voltage. VOUT is disconnected from VIN during shutdown. Bypass VOUT with a >=10uF ceramic low ESR capacitor (4uF min, ESR < 0.1ohm max).", 7 C1+ "Flying Capacitor One Positive Terminal.", 8 SS/~{SHDN} (in) "Soft-Start/Shutdown Control Pin. This pin is designed to be driven with an external open-drain output. Holding the SS/S\H\D\N\ pin below 0.3V will force the LTC1911-X into shutdown mode. An internal pull-up current of 2uA (See Datasheet)"

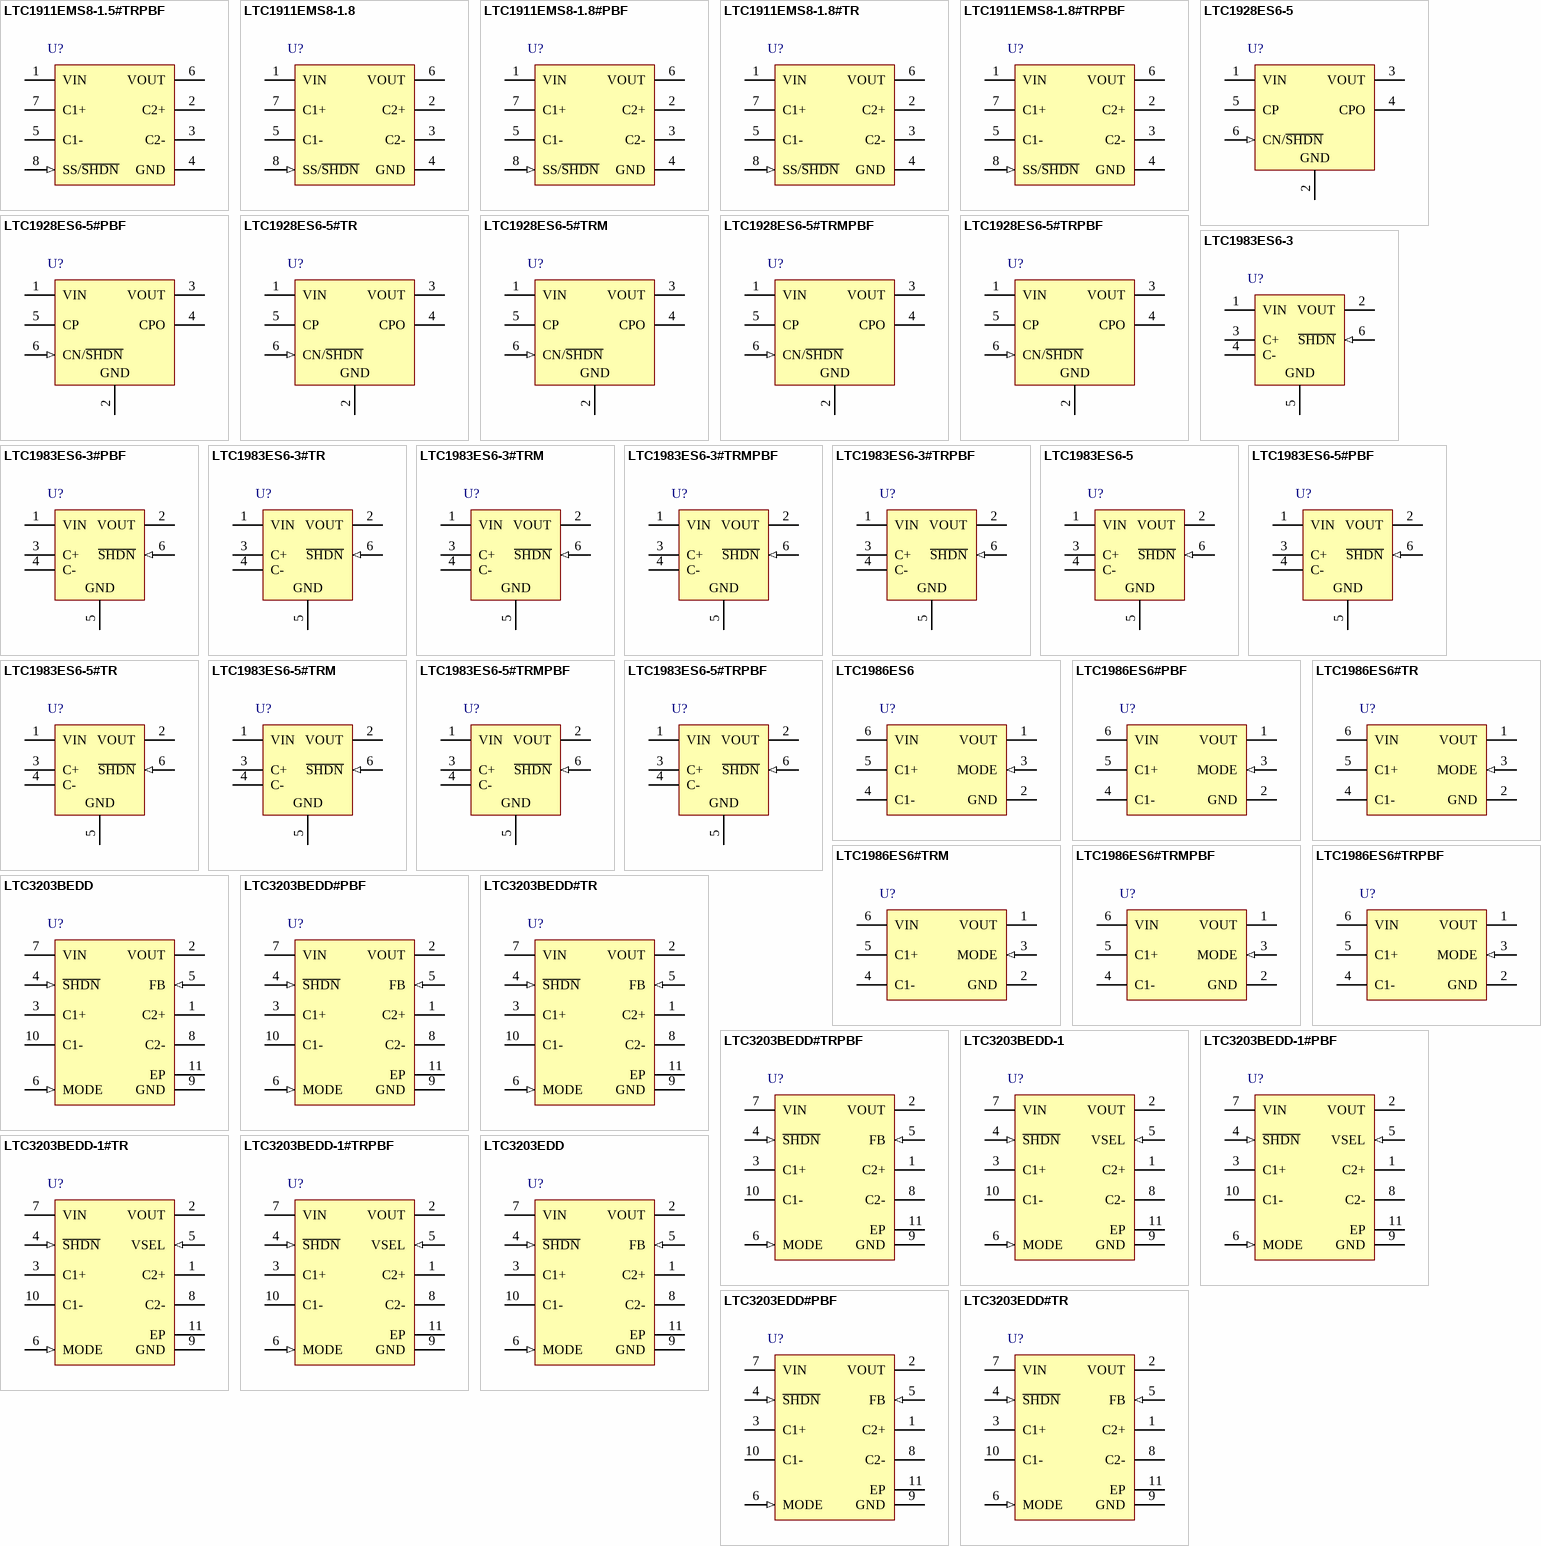
[diagram p12: symbols LTC1911EMS8-1.5#TRPBF to LTC3203EDD#TR]

## LTC1911EMS8-1.5#TRPBF
designator U?
Low Noise, High Efficiency, Inductorless Step-Down DC/DC Converter, 2.7 to 5.5 V Vin, 1.5 V Vout, 8-pin SOP (MS8-8), -40 to 85 degC, Pb-Free, Tape and Reel; Manufacturer: Linear Technology; PartNumber: LTC1911EMS8-1.5#TRPBF; Frequency(kHz): 1500; Ishutdown(uA): 10; Isupply(mA): 0.18; Max Iout(mA): 250; Vin Max(V): 5.5; Vin Min(V): 2.7; Voutput: 1.5V; PackageVersion: Rev. G, 03/2012; PackageReference: MS8-8; PackageDescription: 8-Pin Plastic MSOP, Body 3 x 3 mm, Pitch 0.65 mm; Supplier 1: Digi-Key; Supplier Part Number 1: LTC1911EMS8-1.5#TRPBF-ND; Packing: Tape and Reel; RoHS: TRUE; Mounting Technology: Surface Mount; ComponentLink1Description: Manufacturer URL; ComponentLink1URL: http://www.linear.com/; ComponentLink2Description: Datasheet; ComponentLink2URL: http://cds.linear.com/docs/en/datasheet/1911f.pdf; ComponentLink3Description: Package Specification; ComponentLink3URL: http://cds.linear.com/docs/en/packaging/05081660_G_MS8.pdf
footprint LT-MS8-8_N (SOP, 8-Leads, Body 3.1x3.1mm, Pitch 0.65mm, IPC Medium Density)
footprint LT-MS8-8_L (SOP, 8-Leads, Body 3.1x3.1mm, Pitch 0.65mm, IPC High Density)
footprint LT-MS8-8_M (SOP, 8-Leads, Body 3.1x3.1mm, Pitch 0.65mm, IPC Low Density)
pins: 1 VIN (power) "Input Supply Voltage. VIN may be between 2.7V and 5.5V. Suggested bypass for VIN is a 10uF (1uF min) ceramic low ESR capacitor.", 2 C2+ "Flying Capacitor Two Positive Terminal.", 3 C2- "Flying Capacitor Two Negative Terminal.", 4 GND (power) "Ground. Connect to a ground plane for best performance.", 5 C1- "Flying Capacitor One Negative Terminal.", 6 VOUT (power) "Regulated Output Voltage. VOUT is disconnected from VIN during shutdown. Bypass VOUT with a >=10uF ceramic low ESR capacitor (4uF min, ESR < 0.1ohm max).", 7 C1+ "Flying Capacitor One Positive Terminal.", 8 SS/~{SHDN} (in) "Soft-Start/Shutdown Control Pin. This pin is designed to be driven with an external open-drain output. Holding the SS/S\H\D\N\ pin below 0.3V will force the LTC1911-X into shutdown mode. An internal pull-up current of 2uA (See Datasheet)"

## LTC1911EMS8-1.8
designator U?
Low Noise, High Efficiency, Inductorless Step-Down DC/DC Converter, 2.7 to 5.5 V Vin, 1.8 V Vout, 8-pin SOP (MS8-8), -40 to 85 degC; Manufacturer: Linear Technology; PartNumber: LTC1911EMS8-1.8; Frequency(kHz): 1500; Ishutdown(uA): 10; Isupply(mA): 0.18; Max Iout(mA): 250; Vin Max(V): 5.5; Vin Min(V): 2.7; Voutput: 1.8V; PackageVersion: Rev. G, 03/2012; PackageReference: MS8-8; PackageDescription: 8-Pin Plastic MSOP, Body 3 x 3 mm, Pitch 0.65 mm; Supplier 1: Digi-Key; Supplier Part Number 1: LTC1911EMS8-1.8-ND; RoHS: FALSE; Mounting Technology: Surface Mount; ComponentLink1Description: Manufacturer URL; ComponentLink1URL: http://www.linear.com/; ComponentLink2Description: Datasheet; ComponentLink2URL: http://cds.linear.com/docs/en/datasheet/1911f.pdf; ComponentLink3Description: Package Specification; ComponentLink3URL: http://cds.linear.com/docs/en/packaging/05081660_G_MS8.pdf
footprint LT-MS8-8_N (SOP, 8-Leads, Body 3.1x3.1mm, Pitch 0.65mm, IPC Medium Density)
footprint LT-MS8-8_L (SOP, 8-Leads, Body 3.1x3.1mm, Pitch 0.65mm, IPC High Density)
footprint LT-MS8-8_M (SOP, 8-Leads, Body 3.1x3.1mm, Pitch 0.65mm, IPC Low Density)
pins: 1 VIN (power) "Input Supply Voltage. VIN may be between 2.7V and 5.5V. Suggested bypass for VIN is a 10uF (1uF min) ceramic low ESR capacitor.", 2 C2+ "Flying Capacitor Two Positive Terminal.", 3 C2- "Flying Capacitor Two Negative Terminal.", 4 GND (power) "Ground. Connect to a ground plane for best performance.", 5 C1- "Flying Capacitor One Negative Terminal.", 6 VOUT (power) "Regulated Output Voltage. VOUT is disconnected from VIN during shutdown. Bypass VOUT with a >=10uF ceramic low ESR capacitor (4uF min, ESR < 0.1ohm max).", 7 C1+ "Flying Capacitor One Positive Terminal.", 8 SS/~{SHDN} (in) "Soft-Start/Shutdown Control Pin. This pin is designed to be driven with an external open-drain output. Holding the SS/S\H\D\N\ pin below 0.3V will force the LTC1911-X into shutdown mode. An internal pull-up current of 2uA (See Datasheet)"

## LTC1911EMS8-1.8#PBF
designator U?
Low Noise, High Efficiency, Inductorless Step-Down DC/DC Converter, 2.7 to 5.5 V Vin, 1.8 V Vout, 8-pin SOP (MS8-8), -40 to 85 degC, Pb-Free; Manufacturer: Linear Technology; PartNumber: LTC1911EMS8-1.8#PBF; Frequency(kHz): 1500; Ishutdown(uA): 10; Isupply(mA): 0.18; Max Iout(mA): 250; Vin Max(V): 5.5; Vin Min(V): 2.7; Voutput: 1.8V; PackageVersion: Rev. G, 03/2012; PackageReference: MS8-8; PackageDescription: 8-Pin Plastic MSOP, Body 3 x 3 mm, Pitch 0.65 mm; Supplier 1: Digi-Key; Supplier Part Number 1: LTC1911EMS8-1.8#PBF-ND; Supplier 2: Newark; Supplier Part Number 2: 56M4316; RoHS: TRUE; Mounting Technology: Surface Mount; ComponentLink1Description: Manufacturer URL; ComponentLink1URL: http://www.linear.com/; ComponentLink2Description: Datasheet; ComponentLink2URL: http://cds.linear.com/docs/en/datasheet/1911f.pdf; ComponentLink3Description: Package Specification; ComponentLink3URL: http://cds.linear.com/docs/en/packaging/05081660_G_MS8.pdf
footprint LT-MS8-8_N (SOP, 8-Leads, Body 3.1x3.1mm, Pitch 0.65mm, IPC Medium Density)
footprint LT-MS8-8_L (SOP, 8-Leads, Body 3.1x3.1mm, Pitch 0.65mm, IPC High Density)
footprint LT-MS8-8_M (SOP, 8-Leads, Body 3.1x3.1mm, Pitch 0.65mm, IPC Low Density)
pins: 1 VIN (power) "Input Supply Voltage. VIN may be between 2.7V and 5.5V. Suggested bypass for VIN is a 10uF (1uF min) ceramic low ESR capacitor.", 2 C2+ "Flying Capacitor Two Positive Terminal.", 3 C2- "Flying Capacitor Two Negative Terminal.", 4 GND (power) "Ground. Connect to a ground plane for best performance.", 5 C1- "Flying Capacitor One Negative Terminal.", 6 VOUT (power) "Regulated Output Voltage. VOUT is disconnected from VIN during shutdown. Bypass VOUT with a >=10uF ceramic low ESR capacitor (4uF min, ESR < 0.1ohm max).", 7 C1+ "Flying Capacitor One Positive Terminal.", 8 SS/~{SHDN} (in) "Soft-Start/Shutdown Control Pin. This pin is designed to be driven with an external open-drain output. Holding the SS/S\H\D\N\ pin below 0.3V will force the LTC1911-X into shutdown mode. An internal pull-up current of 2uA (See Datasheet)"

## LTC1911EMS8-1.8#TR
designator U?
Low Noise, High Efficiency, Inductorless Step-Down DC/DC Converter, 2.7 to 5.5 V Vin, 1.8 V Vout, 8-pin SOP (MS8-8), -40 to 85 degC, Tape and Reel; Manufacturer: Linear Technology; PartNumber: LTC1911EMS8-1.8#TR; Frequency(kHz): 1500; Ishutdown(uA): 10; Isupply(mA): 0.18; Max Iout(mA): 250; Vin Max(V): 5.5; Vin Min(V): 2.7; Voutput: 1.8V; PackageVersion: Rev. G, 03/2012; PackageReference: MS8-8; PackageDescription: 8-Pin Plastic MSOP, Body 3 x 3 mm, Pitch 0.65 mm; Supplier 1: Digi-Key; Supplier Part Number 1: LTC1911EMS8-1.8TR-ND; Packing: Tape and Reel; RoHS: FALSE; Mounting Technology: Surface Mount; ComponentLink1Description: Manufacturer URL; ComponentLink1URL: http://www.linear.com/; ComponentLink2Description: Datasheet; ComponentLink2URL: http://cds.linear.com/docs/en/datasheet/1911f.pdf; ComponentLink3Description: Package Specification; ComponentLink3URL: http://cds.linear.com/docs/en/packaging/05081660_G_MS8.pdf
footprint LT-MS8-8_N (SOP, 8-Leads, Body 3.1x3.1mm, Pitch 0.65mm, IPC Medium Density)
footprint LT-MS8-8_L (SOP, 8-Leads, Body 3.1x3.1mm, Pitch 0.65mm, IPC High Density)
footprint LT-MS8-8_M (SOP, 8-Leads, Body 3.1x3.1mm, Pitch 0.65mm, IPC Low Density)
pins: 1 VIN (power) "Input Supply Voltage. VIN may be between 2.7V and 5.5V. Suggested bypass for VIN is a 10uF (1uF min) ceramic low ESR capacitor.", 2 C2+ "Flying Capacitor Two Positive Terminal.", 3 C2- "Flying Capacitor Two Negative Terminal.", 4 GND (power) "Ground. Connect to a ground plane for best performance.", 5 C1- "Flying Capacitor One Negative Terminal.", 6 VOUT (power) "Regulated Output Voltage. VOUT is disconnected from VIN during shutdown. Bypass VOUT with a >=10uF ceramic low ESR capacitor (4uF min, ESR < 0.1ohm max).", 7 C1+ "Flying Capacitor One Positive Terminal.", 8 SS/~{SHDN} (in) "Soft-Start/Shutdown Control Pin. This pin is designed to be driven with an external open-drain output. Holding the SS/S\H\D\N\ pin below 0.3V will force the LTC1911-X into shutdown mode. An internal pull-up current of 2uA (See Datasheet)"

## LTC1911EMS8-1.8#TRPBF
designator U?
Low Noise, High Efficiency, Inductorless Step-Down DC/DC Converter, 2.7 to 5.5 V Vin, 1.8 V Vout, 8-pin SOP (MS8-8), -40 to 85 degC, Pb-Free, Tape and Reel; Manufacturer: Linear Technology; PartNumber: LTC1911EMS8-1.8#TRPBF; Frequency(kHz): 1500; Ishutdown(uA): 10; Isupply(mA): 0.18; Max Iout(mA): 250; Vin Max(V): 5.5; Vin Min(V): 2.7; Voutput: 1.8V; PackageVersion: Rev. G, 03/2012; PackageReference: MS8-8; PackageDescription: 8-Pin Plastic MSOP, Body 3 x 3 mm, Pitch 0.65 mm; Supplier 1: Digi-Key; Supplier Part Number 1: LTC1911EMS8-1.8#TRPBF-ND; Packing: Tape and Reel; RoHS: TRUE; Mounting Technology: Surface Mount; ComponentLink1Description: Manufacturer URL; ComponentLink1URL: http://www.linear.com/; ComponentLink2Description: Datasheet; ComponentLink2URL: http://cds.linear.com/docs/en/datasheet/1911f.pdf; ComponentLink3Description: Package Specification; ComponentLink3URL: http://cds.linear.com/docs/en/packaging/05081660_G_MS8.pdf
footprint LT-MS8-8_N (SOP, 8-Leads, Body 3.1x3.1mm, Pitch 0.65mm, IPC Medium Density)
footprint LT-MS8-8_L (SOP, 8-Leads, Body 3.1x3.1mm, Pitch 0.65mm, IPC High Density)
footprint LT-MS8-8_M (SOP, 8-Leads, Body 3.1x3.1mm, Pitch 0.65mm, IPC Low Density)
pins: 1 VIN (power) "Input Supply Voltage. VIN may be between 2.7V and 5.5V. Suggested bypass for VIN is a 10uF (1uF min) ceramic low ESR capacitor.", 2 C2+ "Flying Capacitor Two Positive Terminal.", 3 C2- "Flying Capacitor Two Negative Terminal.", 4 GND (power) "Ground. Connect to a ground plane for best performance.", 5 C1- "Flying Capacitor One Negative Terminal.", 6 VOUT (power) "Regulated Output Voltage. VOUT is disconnected from VIN during shutdown. Bypass VOUT with a >=10uF ceramic low ESR capacitor (4uF min, ESR < 0.1ohm max).", 7 C1+ "Flying Capacitor One Positive Terminal.", 8 SS/~{SHDN} (in) "Soft-Start/Shutdown Control Pin. This pin is designed to be driven with an external open-drain output. Holding the SS/S\H\D\N\ pin below 0.3V will force the LTC1911-X into shutdown mode. An internal pull-up current of 2uA (See Datasheet)"

## LTC1928ES6-5
designator U?
Doubler Charge Pump with Low Noise Linear Regulator, 2.7 to 4.4 V Vin, 5 V Vout, 6-pin SOT23 (S6-6), -40 to 85 degC; Manufacturer: Linear Technology; PartNumber: LTC1928ES6-5; Frequency(kHz): 550; Ishutdown(uA): 4; Isupply(mA): 0.19; Max Iout(mA): 30; Vin Max(V): 4.4; Vin Min(V): 2.7; Voutput: 5 V; PackageVersion: Jun-10; PackageReference: S6-6; PackageDescription: 6-Pin Plastic TSOT-23, Body 2.9 x 1.63 mm, Pitch 0.95 mm; RoHS: FALSE; Mounting Technology: Surface Mount; Code_JEDEC: MO-193; ComponentLink1Description: Manufacturer URL; ComponentLink1URL: http://www.linear.com/; ComponentLink2Description: Datasheet; ComponentLink2URL: http://cds.linear.com/docs/en/datasheet/19285f.pdf; ComponentLink3Description: Package Specification; ComponentLink3URL: http://cds.linear.com/docs/en/packaging/SOT_6_05-08-1636.pdf
footprint LT-S6-6-TSOT-23_N (SOT23, 6-Leads, Body 2.9x1.75mm, Pitch 0.95mm, IPC Medium Density)
footprint LT-S6-6-TSOT-23_L (SOT23, 6-Leads, Body 2.9x1.75mm, Pitch 0.95mm, IPC High Density)
footprint LT-S6-6-TSOT-23_M (SOT23, 6-Leads, Body 2.9x1.75mm, Pitch 0.95mm, IPC Low Density)
pins: 1 VIN (power) "Input Voltage, 2.7V to 4.4V. VIN should be bypassed with a>=2uF low ESR capacitor as close to the pin as possible for best performance. A minimum capacitance value of 0.1uF is required.", 2 GND (power) "System Ground.", 3 VOUT (power) "Low Noise Regulated Output Voltage. VOUT should be bypassed with a>=2uF low ESR capacitor as close to the pin as possible for best performance. The VOUT voltage is internally set to 5V.", 4 CPO "Boosted Unregulated Voltage. Approximately 1.95VIN at low loads. Bypass with a>=2uF low ESR capacitor.", 5 CP "Flying Capacitor Positive Input.", 6 CN/~{SHDN} (in) "Flying Capacitor Negative Input and S\H\D\N\. When this pin is pulled to ground through a 100ohm resistor, the part will go into shutdown within approximately 30us."

## LTC1928ES6-5#PBF
designator U?
Doubler Charge Pump with Low Noise Linear Regulator, 2.7 to 4.4 V Vin, 5 V Vout, 6-pin SOT23 (S6-6), -40 to 85 degC, Pb-Free; Manufacturer: Linear Technology; PartNumber: LTC1928ES6-5#PBF; Frequency(kHz): 550; Ishutdown(uA): 4; Isupply(mA): 0.19; Max Iout(mA): 30; Vin Max(V): 4.4; Vin Min(V): 2.7; Voutput: 5 V; PackageVersion: Jun-10; PackageReference: S6-6; PackageDescription: 6-Pin Plastic TSOT-23, Body 2.9 x 1.63 mm, Pitch 0.95 mm; Supplier 1: Newark; Supplier Part Number 1: 78T2533; RoHS: TRUE; Mounting Technology: Surface Mount; Code_JEDEC: MO-193; ComponentLink1Description: Manufacturer URL; ComponentLink1URL: http://www.linear.com/; ComponentLink2Description: Datasheet; ComponentLink2URL: http://cds.linear.com/docs/en/datasheet/19285f.pdf; ComponentLink3Description: Package Specification; ComponentLink3URL: http://cds.linear.com/docs/en/packaging/SOT_6_05-08-1636.pdf
footprint LT-S6-6-TSOT-23_N (SOT23, 6-Leads, Body 2.9x1.75mm, Pitch 0.95mm, IPC Medium Density)
footprint LT-S6-6-TSOT-23_L (SOT23, 6-Leads, Body 2.9x1.75mm, Pitch 0.95mm, IPC High Density)
footprint LT-S6-6-TSOT-23_M (SOT23, 6-Leads, Body 2.9x1.75mm, Pitch 0.95mm, IPC Low Density)
pins: 1 VIN (power) "Input Voltage, 2.7V to 4.4V. VIN should be bypassed with a>=2uF low ESR capacitor as close to the pin as possible for best performance. A minimum capacitance value of 0.1uF is required.", 2 GND (power) "System Ground.", 3 VOUT (power) "Low Noise Regulated Output Voltage. VOUT should be bypassed with a>=2uF low ESR capacitor as close to the pin as possible for best performance. The VOUT voltage is internally set to 5V.", 4 CPO "Boosted Unregulated Voltage. Approximately 1.95VIN at low loads. Bypass with a>=2uF low ESR capacitor.", 5 CP "Flying Capacitor Positive Input.", 6 CN/~{SHDN} (in) "Flying Capacitor Negative Input and S\H\D\N\. When this pin is pulled to ground through a 100ohm resistor, the part will go into shutdown within approximately 30us."

## LTC1928ES6-5#TR
designator U?
Doubler Charge Pump with Low Noise Linear Regulator, 2.7 to 4.4 V Vin, 5 V Vout, 6-pin SOT23 (S6-6), -40 to 85 degC, Tape and Reel; Manufacturer: Linear Technology; PartNumber: LTC1928ES6-5#TR; Frequency(kHz): 550; Ishutdown(uA): 4; Isupply(mA): 0.19; Max Iout(mA): 30; Vin Max(V): 4.4; Vin Min(V): 2.7; Voutput: 5 V; PackageVersion: Jun-10; PackageReference: S6-6; PackageDescription: 6-Pin Plastic TSOT-23, Body 2.9 x 1.63 mm, Pitch 0.95 mm; Supplier 1: Digi-Key; Supplier Part Number 1: LTC1928ES6-5#TR-ND; Packing: Tape and Reel; RoHS: FALSE; Mounting Technology: Surface Mount; Code_JEDEC: MO-193; ComponentLink1Description: Manufacturer URL; ComponentLink1URL: http://www.linear.com/; ComponentLink2Description: Datasheet; ComponentLink2URL: http://cds.linear.com/docs/en/datasheet/19285f.pdf; ComponentLink3Description: Package Specification; ComponentLink3URL: http://cds.linear.com/docs/en/packaging/SOT_6_05-08-1636.pdf
footprint LT-S6-6-TSOT-23_N (SOT23, 6-Leads, Body 2.9x1.75mm, Pitch 0.95mm, IPC Medium Density)
footprint LT-S6-6-TSOT-23_L (SOT23, 6-Leads, Body 2.9x1.75mm, Pitch 0.95mm, IPC High Density)
footprint LT-S6-6-TSOT-23_M (SOT23, 6-Leads, Body 2.9x1.75mm, Pitch 0.95mm, IPC Low Density)
pins: 1 VIN (power) "Input Voltage, 2.7V to 4.4V. VIN should be bypassed with a>=2uF low ESR capacitor as close to the pin as possible for best performance. A minimum capacitance value of 0.1uF is required.", 2 GND (power) "System Ground.", 3 VOUT (power) "Low Noise Regulated Output Voltage. VOUT should be bypassed with a>=2uF low ESR capacitor as close to the pin as possible for best performance. The VOUT voltage is internally set to 5V.", 4 CPO "Boosted Unregulated Voltage. Approximately 1.95VIN at low loads. Bypass with a>=2uF low ESR capacitor.", 5 CP "Flying Capacitor Positive Input.", 6 CN/~{SHDN} (in) "Flying Capacitor Negative Input and S\H\D\N\. When this pin is pulled to ground through a 100ohm resistor, the part will go into shutdown within approximately 30us."